# EAGLE library part ADS122U04 (library DAQ_24bit_Hardware)
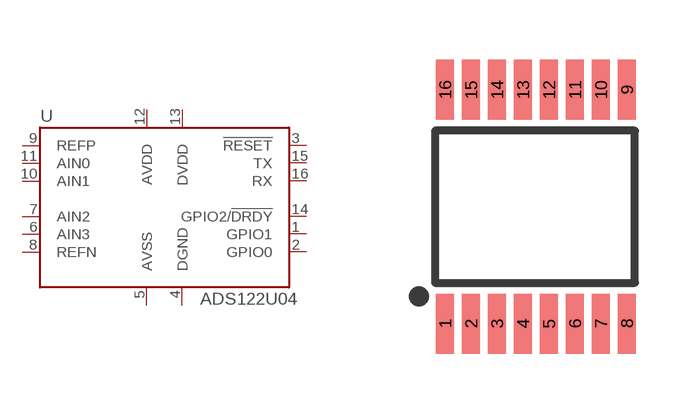
[diagram p2: symbol with the pads of SSOP16; footprint SSOP16]

Designator prefix U

## ADS122U04  [SSOP16]
1  GPIO1
2  GPIO0
3  !RESET
4  DGND
5  AVSS
6  AIN3
7  AIN2
8  REFN
9  REFP
10  AIN1
11  AIN0
12  AVDD
13  DVDD
14  GPIO2/!DRDY
15  TX
16  RX

## Footprint SSOP16 (pad centres in mm)
smd 0.45 x 1.5: 1 -2.264,-2.99; 2 -1.614,-2.99; 3 -0.964,-2.99; 4 -0.314,-2.99; 5 0.336,-2.99; 6 0.986,-2.99; 7 1.636,-2.99; 8 2.286,-2.99; 9 2.286,2.86; 10 1.636,2.86; 11 0.986,2.86; 12 0.336,2.86; 13 -0.314,2.86; 14 -0.964,2.86; 15 -1.614,2.86; 16 -2.264,2.86